# Altium schematic symbol library IC Schematics.SchLib: 33 symbols
Pins are listed as number, name and electrical type; pins without a type are passive.

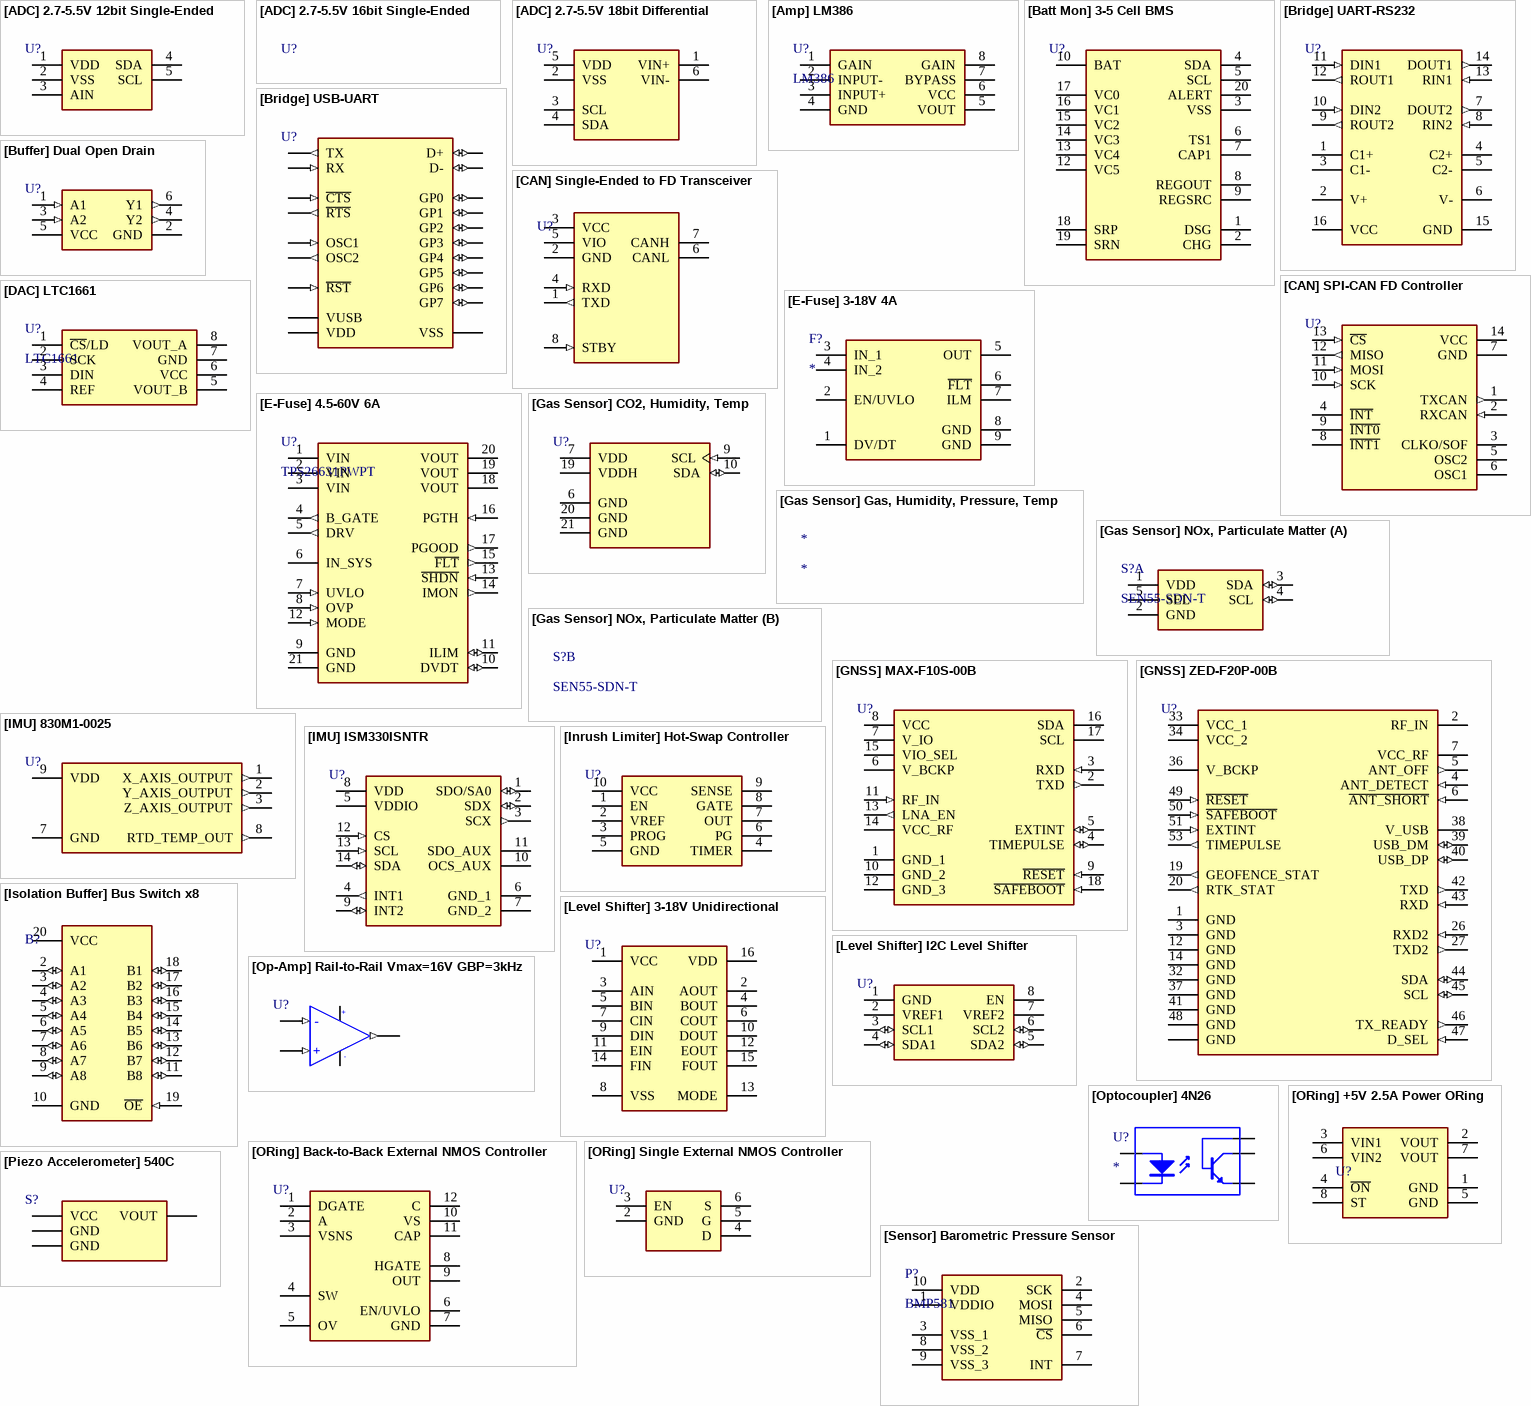
[diagram p0: symbols [ADC] 2.7-5.5V 12bit Single-Ended to [Sensor] Barometric Pressure Sensor]

## [ADC] 2.7-5.5V 12bit Single-Ended
designator U?  (value not drawn)
MCP3221A0T-E/OT; Supplier 1: DigiKey; Supplier Part Number 1: MCP3221A0T-E/OTCT-ND
footprint [ADC] 2.7-5.5V 12bit Single-Ended (MCP3221A0T-E/OT)
pins: 1 VDD, 2 VSS, 3 AIN, 4 SDA, 5 SCL

## [ADC] 2.7-5.5V 16bit Single-Ended
designator U?  (value not drawn)
MCP33131-05-E/MS

## [ADC] 2.7-5.5V 18bit Differential
designator U?  (value not drawn)
MCP3421A3T-E/CH; Supplier 1: DigiKey; Supplier Part Number 1: MCP3421A3T-E/CHCT-ND
footprint [ADC] 2.7-5.5V 18bit Differential (MCP3421A3T-E/CH)
pins: 1 VIN+, 2 VSS, 3 SCL, 4 SDA, 5 VDD, 6 VIN-

## [Amp] LM386
designator U?, comment LM386
LM386N-1/NOPB; Supplier 1: DigiKey; Supplier Part Number 1: 296-44414-5-ND
footprint [Amp] LM386 (LM386N-1/NOPB)
pins: 1 GAIN, 2 INPUT-, 3 INPUT+, 4 GND, 5 VOUT, 6 VCC, 7 BYPASS, 8 GAIN

## [Batt Mon] 3-5 Cell BMS
designator U?  (value not drawn)
BQ7692006PWR; Supplier 1: DigiKey; Supplier Part Number 1: 296-39960-1-ND
footprint [Batt Mon] 3-5 Cell BMS
pins: 1 DSG, 2 CHG, 3 VSS, 4 SDA, 5 SCL, 6 TS1, 7 CAP1, 8 REGOUT, 9 REGSRC, 10 BAT, 12 VC5, 13 VC4, 14 VC3, 15 VC2, 16 VC1, 17 VC0, 18 SRP, 19 SRN, 20 ALERT

## [Bridge] UART-RS232
designator U?  (value not drawn)
MAX3232ECDR; Supplier 1: DigiKey; Supplier Part Number 1: 296-19851-6-ND
footprint [Bridge] UART-RS232
pins: 1 C1+ (power), 2 V+ (power), 3 C1- (power), 4 C2+ (power), 5 C2- (power), 6 V- (power), 7 DOUT2 (out), 8 RIN2 (in), 9 ROUT2 (out), 10 DIN2 (in), 11 DIN1 (in), 12 ROUT1 (out), 13 RIN1 (in), 14 DOUT1 (out), 15 GND (power), 16 VCC (power)

## [Bridge] USB-UART
designator U?, comment USB-UART Bridge  (value not drawn)
MCP2200T-I/SO; Supplier 1: DigiKey; Supplier Part Number 1: MCP2200T-I/SOCT-ND
footprint [Bridge] USB-UART
pins: 1 VDD (power), 2 OSC1 (in), 3 OSC2 (out), 4 ~{RST} (in), 5 GP7 (io), 6 GP6 (io), 7 GP5 (io), 8 GP4 (io), 9 GP3 (io), 10 TX (out), 11 ~{RTS} (out), 12 RX (in), 13 ~{CTS} (in), 14 GP2 (io), 15 GP1 (io), 16 GP0 (io), 17 VUSB (power), 18 D- (io), 19 D+ (io), 20 VSS (power)

## [Buffer] Dual Open Drain
designator U?  (value not drawn)
NC7WZ07P6X; Supplier 1: DigiKey; Supplier Part Number 1: NC7WZ07P6XDKR-ND
footprint [Buffer] Dual Open Drain (NC7WZ07P6X)
pins: 1 A1 (in), 2 GND (power), 3 A2 (in), 4 Y2 (out), 5 VCC (power), 6 Y1 (out)

## [CAN] Single-Ended to FD Transceiver
designator U?  (value not drawn)
ATA6561-GAQW-N; Supplier 1: DigiKey; Supplier Part Number 1: ATA6561-GAQW-NCT-ND
footprint [CAN] Single-Ended to FD Transceiver (ATA6561-GAQW-N)
pins: 1 TXD (out), 2 GND (power), 3 VCC (power), 4 RXD (in), 5 VIO (power), 6 CANL, 7 CANH, 8 STBY (in)

## [CAN] SPI-CAN FD Controller
designator U?  (value not drawn)
MCP2518FDT-E/SL; Supplier 1: DigiKey; Supplier Part Number 1: MCP2518FDT-E/SLCT-ND
footprint [CAN] SPI-CAN FD Controller (MCP2518FDT-E/SL)
pins: 1 TXCAN (out), 2 RXCAN (in), 3 CLKO/SOF, 4 ~{INT}, 5 OSC2, 6 OSC1, 7 GND, 8 ~{INT1}, 9 ~{INT0}, 10 SCK (in), 11 MOSI (in), 12 MISO (out), 13 ~{CS} (in), 14 VCC

## [DAC] LTC1661
designator U?, comment LTC1661
LTC1661CN8#PBF; Supplier 1: DigiKey; Supplier Part Number 1: LTC1661CN8#PBF-ND
footprint [DAC] LTC1661 (LTC1661CN8#PBF)
pins: 1 ~{CS}/LD, 2 SCK, 3 DIN, 4 REF, 5 VOUT_B, 6 VCC, 7 GND, 8 VOUT_A

## [E-Fuse] 3-18V 4A
designator F?
TPS259571DSGR; Supplier 1: DigiKey; Supplier Part Number 1: 296-50500-1-ND
footprint [E-Fuse] 3-18V 4A (TPS259571DSGR)
pins: 1 DV/DT, 2 EN/UVLO, 3 IN_1, 4 IN_2, 5 OUT, 6 ~{FLT}, 7 ILM, 8 GND, 9 GND

## [E-Fuse] 4.5-60V 6A
designator U?, comment TPS26631PWPT
footprint [E-Fuse] 4.5-60V 6A (TPS26631PWPT)
pins: 1 VIN, 2 VIN, 3 VIN, 4 B_GATE (out), 5 DRV (out), 6 IN_SYS (power), 7 UVLO (in), 8 OVP (in), 9 GND, 10 DVDT (io), 11 ILIM (io), 12 MODE (in), 13 ~{SHDN} (in), 14 IMON (out), 15 ~{FLT} (out), 16 PGTH (in), 17 PGOOD (out), 18 VOUT, 19 VOUT, 20 VOUT, 21 GND (power)

## [Gas Sensor] CO2, Humidity, Temp
designator U?  (value not drawn)
SCD41-D-R2; Supplier 1: DigiKey; Supplier Part Number 1: 1649-SCD41-D-R2DKR-ND
footprint [Gas Sensor] SCD41-D-R2 (SCD41-D-R2)
pins: 6 GND (power), 7 VDD (power), 9 SCL (in), 10 SDA (io), 19 VDDH (power), 20 GND (power), 21 GND (power)

## [Gas Sensor] Gas, Humidity, Pressure, Temp
designator *
BME688

## [Gas Sensor] NOx, Particulate Matter
designator S?, comment SEN55-SDN-T
Supplier 1: DigiKey; Supplier Part Number 1: 1649-SEN55-SDN-T-ND
part A pins: 1 VDD (power), 2 GND (power), 3 SDA (io), 4 SCL (io), 5 SEL (power)

## [GNSS] MAX-F10S-00B
designator U?, comment Dual-Band GNSS Module  (value not drawn)
MAX-F10S-00B
footprint [GNSS] MAX-F10S-00B (MAX-F10S-00B)
pins: 1 GND_1 (power), 2 TXD (out), 3 RXD (in), 4 TIMEPULSE (io), 5 EXTINT (io), 6 V_BCKP (power), 7 V_IO (power), 8 VCC (power), 9 ~{RESET} (in), 10 GND_2 (power), 11 RF_IN (in), 12 GND_3 (power), 13 LNA_EN (out), 14 VCC_RF (power), 15 VIO_SEL (power), 16 SDA, 17 SCL, 18 ~{SAFEBOOT} (in)

## [GNSS] ZED-F20P-00B
designator U?, comment High-Precision Triple Band GNSS Module  (value not drawn)
ZED-F20P-00B; Supplier 1: DigiKey; Supplier Part Number 1: 672-ZED-F20P-00BDKR-ND
footprint [GNSS] ZED-F20P-00B (ZED-F20P-00B)
pins: 1 GND (power), 2 RF_IN, 3 GND (power), 4 ANT_DETECT (in), 5 ANT_OFF (out), 6 ~{ANT_SHORT} (in), 7 VCC_RF (power), 12 GND (power), 14 GND (power), 19 GEOFENCE_STAT (out), 20 RTK_STAT (out), 26 RXD2 (in), 27 TXD2 (out), 32 GND (power), 33 VCC_1 (power), 34 VCC_2 (power), 36 V_BCKP (power), 37 GND (power), 38 V_USB (power), 39 USB_DM (io), 40 USB_DP (io), 41 GND (power), 42 TXD (out), 43 RXD (in), 44 SDA (io), 45 SCL (io), 46 TX_READY (out), 47 D_SEL (in), 48 GND (power), 49 ~{RESET} (in), 50 ~{SAFEBOOT} (in), 51 EXTINT (in), 53 TIMEPULSE (out), GND (power)

## [IMU] 830M1-0025
designator U?, comment Piezoelectric Accelerometer  (value not drawn)
830M1-0025; Supplier 1: DigiKey; Supplier Part Number 1: 223-830M1-1000CT-ND
footprint [IMU] 830M1-0025 (830M1-0025)
pins: 1 X_AXIS_OUTPUT (out), 2 Y_AXIS_OUTPUT (out), 3 Z_AXIS_OUTPUT (out), 7 GND (power), 8 RTD_TEMP_OUT (out), 9 VDD (power)

## [IMU] ISM330ISNTR
designator U?  (value not drawn)
ISM330ISNTR; Supplier 1: DigiKey; Supplier Part Number 1: 497-ISM330ISNTRCT-ND
footprint [IMU] ISM330ISNTR
pins: 1 SDO/SA0 (io), 2 SDX (io), 3 SCX (out), 4 INT1 (out), 5 VDDIO (power), 6 GND_1 (power), 7 GND_2 (power), 8 VDD (power), 9 INT2 (io), 10 OCS_AUX, 11 SDO_AUX, 12 CS (in), 13 SCL (in), 14 SDA (io)

## [Inrush Limiter] Hot-Swap Controller
designator U?  (value not drawn)
TPS2491DGSR; Supplier 1: DigiKey; Supplier Part Number 1: 296-26925-1-ND
footprint [Inrush Limiter] Hot-Swap Controller (TPS2491DGSR)
pins: 1 EN, 2 VREF, 3 PROG, 4 TIMER, 5 GND, 6 PG, 7 OUT, 8 GATE, 9 SENSE, 10 VCC

## [Isolation Buffer] Bus Switch x8
designator B?  (value not drawn)
SN74CBTLV3245APWR; Supplier 1: DigiKey; Supplier Part Number 1: 296-9121-1-ND
footprint [Isolation Buffer] Bus Switch x8 (SN74CBTLV3245APWR)
pins: 2 A1 (io), 3 A2 (io), 4 A3 (io), 5 A4 (io), 6 A5 (io), 7 A6 (io), 8 A7 (io), 9 A8 (io), 10 GND (power), 11 B8 (io), 12 B7 (io), 13 B6 (io), 14 B5 (io), 15 B4 (io), 16 B3 (io), 17 B2 (io), 18 B1 (io), 19 ~{OE} (in), 20 VCC (power)

## [Level Shifter] 3-18V Unidirectional
designator U?  (value not drawn)
MC14504BDTR2G; Supplier 1: DigiKey; Supplier Part Number 1: MC14504BDTR2GOSCT-ND
footprint [Level Shifter] 3-18V Unidirectional
pins: 1 VCC, 2 AOUT, 3 AIN, 4 BOUT, 5 BIN, 6 COUT, 7 CIN, 8 VSS, 9 DIN, 10 DOUT, 11 EIN, 12 EOUT, 13 MODE, 14 FIN, 15 FOUT, 16 VDD

## [Level Shifter] I2C Level Shifter
designator U?  (value not drawn)
PCA9306DCTR; Supplier 1: DigiKey; Supplier Part Number 1: 296-18509-1-ND
footprint [Level Shifter] I2C Level Shifter (PCA9306DCTR)
pins: 1 GND (power), 2 VREF1 (power), 3 SCL1 (io), 4 SDA1 (io), 5 SDA2 (io), 6 SCL2 (io), 7 VREF2 (power), 8 EN

## [Op-Amp] Rail-to-Rail Vmax=16V GBP=3kHz
designator U?  (value not drawn)
LT6003CS5#TRMPBF; Supplier 1: DigiKey; Supplier Part Number 1: 505-LT6003CS5#TRMPBFCT-ND
footprint [Op-Amp] Rail-to-Rail Vmax=16V GBP=3kHz (LT6003CS5#TRMPBF)
pins: 1 OUT (out), 2 V- (power), 3 +IN (in), 4 -IN (in), 5 V+ (power)
text: +; -

## [Optocoupler] 4N26
designator U?
4N26S; Supplier 1: DigiKey; Supplier Part Number 1: 160-1303-5-ND
footprint [Optocoupler] 4N26 (4N26S)
pins: 1 A "Anode", 2 K "Cathode", 4 E "Emitter", 5 C "Collector", 6 B "Base"

## [ORing] +5V 2.5A Power ORing
designator U?, comment PWR ORing  (value not drawn)
LM66200DRLR; Supplier 1: DigiKey; Supplier Part Number 1: 296-LM66200DRLRCT-ND
footprint [ORing] +5V 2.5A Power ORing
pins: 1 GND, 2 VOUT, 3 VIN1, 4 ~{ON}, 5 GND, 6 VIN2, 7 VOUT, 8 ST

## [ORing] Back-to-Back External NMOS Controller
designator U?  (value not drawn)
LM74810QDRRRQ1; Supplier 1: DigiKey; Supplier Part Number 1: 296-LM74810QDRRRQ1CT-ND
footprint [ORing] Back-to-Back External NMOS Controller (LM74810QDRRRQ1)
pins: 1 DGATE, 2 A, 3 VSNS, 4 SW, 5 OV, 6 EN/UVLO, 7 GND, 8 HGATE, 9 OUT, 10 VS, 11 CAP, 12 C

## [ORing] Single External NMOS Controller
designator U?  (value not drawn)
NCV68061SNAIT1G; Supplier 1: DigiKey; Supplier Part Number 1: 488-NCV68061SNAIT1GCT-ND
footprint [ORing] NMOS Controller
pins: 2 GND, 3 EN, 4 D, 5 G, 6 S

## [Piezo Accelerometer] 540C
designator S?  (value not drawn)
3137-540CTR-ND
footprint [Piezo Accelerometer] 540C
pins: 1 GND, 2 VOUT, 3 VCC, 5 GND

## [Sensor] Barometric Pressure Sensor
designator P?, comment BMP581
Supplier 1: DigiKey; Supplier Part Number 1: 828-BMP581DKR-ND
footprint [Sensor] Barometric Pressure Sensor (BMP581)
pins: 1 VDDIO, 2 SCK, 3 VSS_1, 4 MOSI, 5 MISO, 6 ~{CS}, 7 INT, 8 VSS_2, 9 VSS_3, 10 VDD

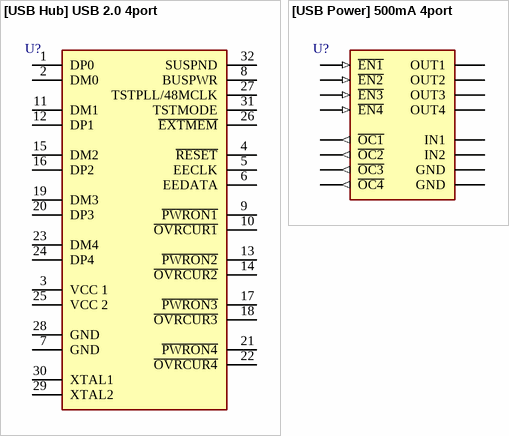
[diagram p1: symbols [USB Hub] USB 2.0 4port to [USB Power] 500mA 4port]

## [USB Hub] USB 2.0 4port
designator U?, comment 4port  (value not drawn)
TUSB2046BVFR; Supplier 1: DigiKey; Supplier Part Number 1: 296-27131-1-ND
footprint [USB Hub] USB2.0 4port
pins: 1 DP0, 2 DM0, 3 VCC 1, 4 ~{RESET}, 5 EECLK, 6 EEDATA, 7 GND, 8 BUSPWR, 9 ~{PWRON1}, 10 ~{OVRCUR1}, 11 DM1, 12 DP1, 13 ~{PWRON2}, 14 ~{OVRCUR2}, 15 DM2, 16 DP2, 17 ~{PWRON3}, 18 ~{OVRCUR3}, 19 DM3, 20 DP3, 21 ~{PWRON4}, 22 ~{OVRCUR4}, 23 DM4, 24 DP4, 25 VCC 2, 26 ~{EXTMEM}, 27 TSTPLL/48MCLK, 28 GND, 29 XTAL2, 30 XTAL1, 31 TSTMODE, 32 SUSPND

## [USB Power] 500mA 4port
designator U?  (value not drawn)
TPS2044BDR; Supplier 1: DigiKey; Supplier Part Number 1: 296-26909-6-ND
footprint [IC] USB Hub Power Distribution
pins: 1 GND (power), 2 IN1 (power), 3 ~{EN1} (in), 4 ~{EN2} (in), 5 GND (power), 6 IN2 (power), 7 ~{EN3} (in), 8 ~{EN4} (in), 9 ~{OC4} (out), 10 OUT4 (power), 11 OUT3 (power), 12 ~{OC3} (out), 13 ~{OC2} (out), 14 OUT2 (power), 15 OUT1 (power), 16 ~{OC1} (out)